# EAGLE library part 690357101072 (library Board-to-Board (rev18a))
WR-MM Male Connector with Polarization, 10 Pins=>Code : Con_BTB_MM_Male_THT_690357101072 <http://katalog.we-online.de/media/thumbs2/eican/thb_Con_BTB_MM_Male_THT_69035710xx72_pf2.jpg> Details see: http://katalog.we-online.de/en/em/6903_5710_xx_72 Created 2014-06-04, Karrer Zheng 2014 (C) Würth Elektronik
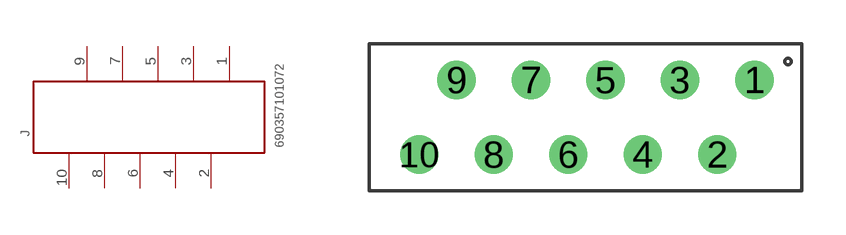
[diagram p307: symbol with the pads of 690357101072; footprint 690357101072]

Designator prefix J

## 690357101072  [690357101072]
1  10  pas
2  9  pas
3  8  pas
4  7  pas
5  6  pas
6  5  pas
7  4  pas
8  3  pas
9  2  pas
10  1  pas

## Footprint 690357101072 (pad centres in mm)
WR-MM Male Connector with Polarization, 10 Pins
drill 0.8: 1 5.76,1.27; 2 4.49,-1.27; 3 3.22,1.27; 4 1.95,-1.27; 5 0.68,1.27; 6 -0.59,-1.27; 7 -1.86,1.27; 8 -3.13,-1.27; 9 -4.4,1.27; 10 -5.67,-1.27